# Altium footprint library Pcblib_20110825.Pcblib: 408 footprints (part 4 of 26)
Each footprint in its own frame and in the unit in brackets; x right, y up, seen from the top. Pads: shape width x height; smd on the part's side, far side on the other; paste and mask are expansions set on the pad; w line width, h text height; cw(c..) or ccw(c..) is an arc to the next point about the centre after c.
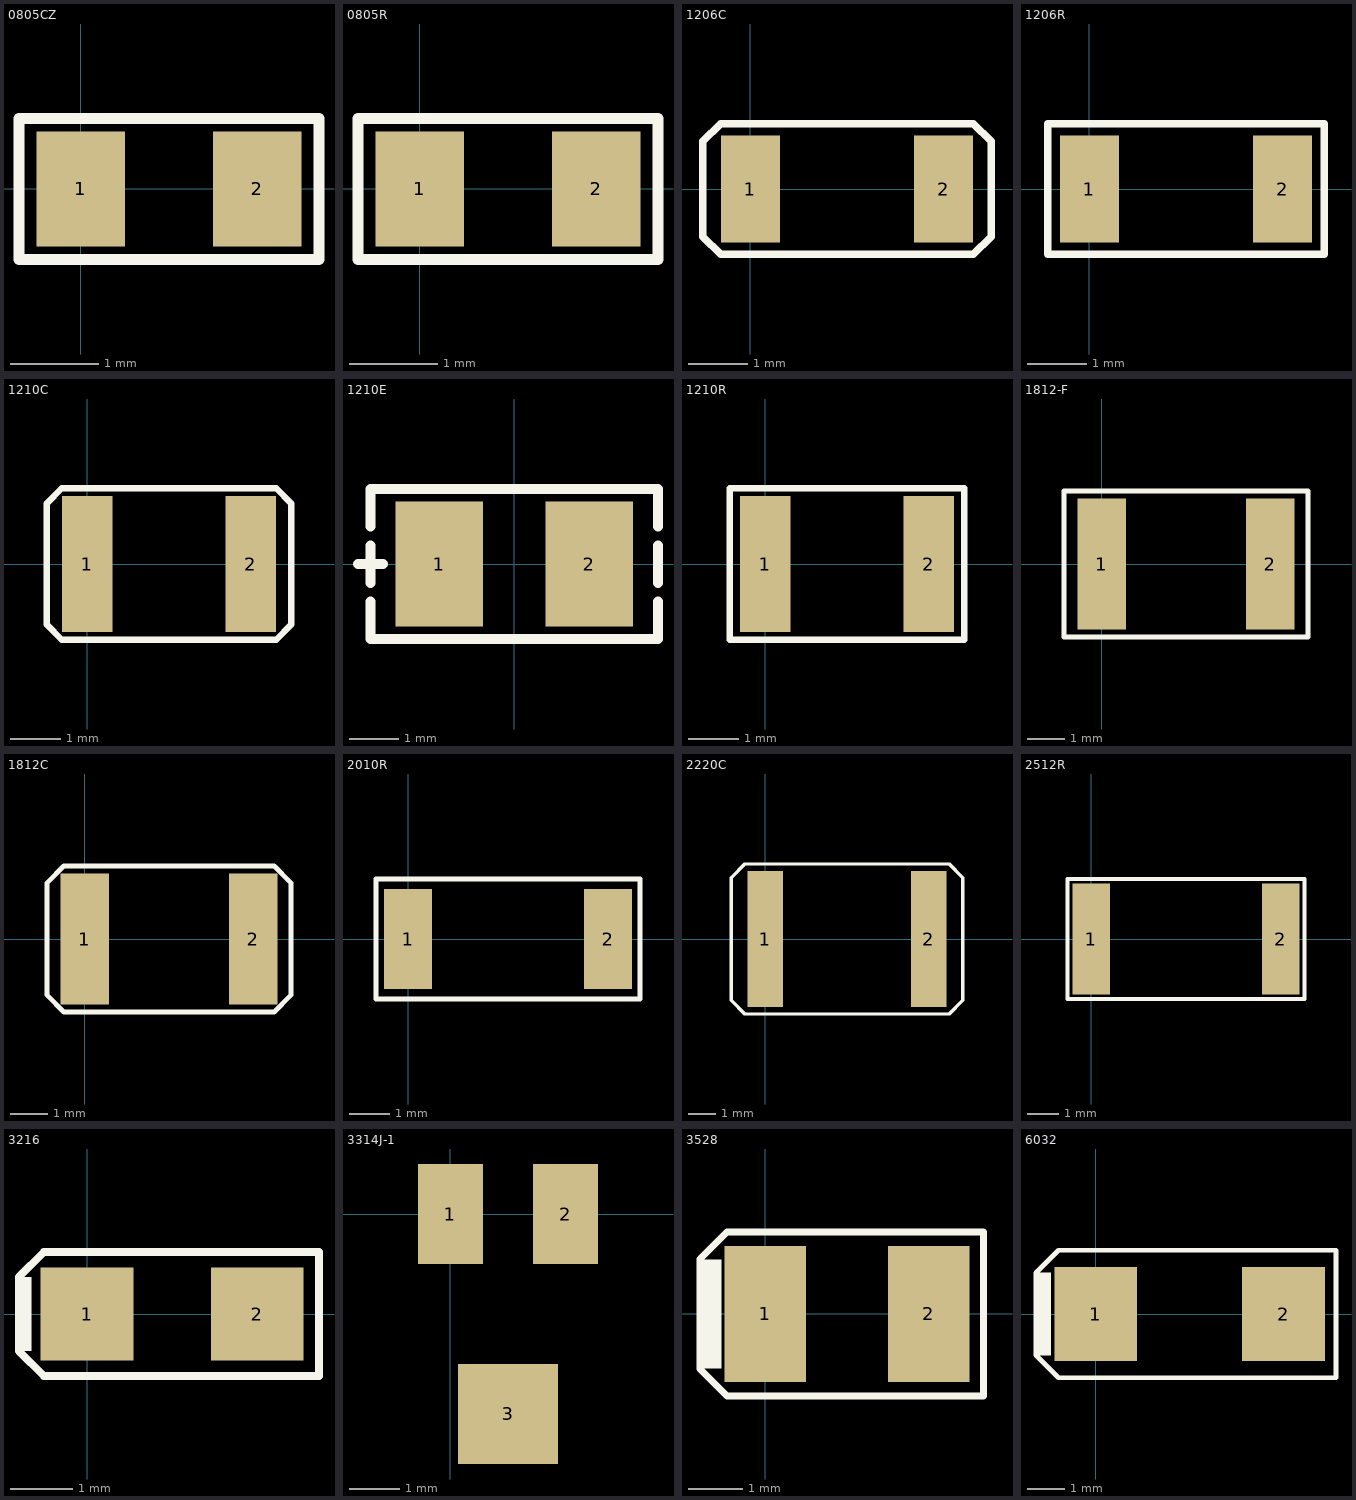
[diagram p3: the footprints below, top view; thin cyan lines are the x and y axes]

## 0805CZ [mm]
pads (2):
  rect 1x1.3 smd: 1(0,0) 2(2,0)
TopOverlay:
  lines w0.127: -0.7,-0.8 -0.7,0.8 2.7,0.8 2.7,-0.8 -0.7,-0.8 ; 2.45,-0.8 2.45,-0.8

## 0805R [mm]
pads (2):
  rect 1x1.3 smd: 1(0,0) 2(2,0)
TopOverlay:
  lines w0.127: -0.7,-0.8 2.7,-0.8 2.7,0.8 -0.7,0.8 -0.7,-0.8 ; 2.45,-0.8 2.45,-0.8

## 1206C [mm]
pads (2):
  rect 1x1.8 smd: 1(0,0) 2(3.25,0)
TopOverlay:
  lines w0.127: -0.8,-0.8 -0.8,0.8 -0.5,1.1 3.75,1.1 4.05,0.8 4.05,-0.8 3.75,-1.1 -0.5,-1.1 -0.8,-0.8

## 1206R [mm]
pads (2):
  rect 1x1.8 smd: 1(0,0) 2(3.25,0)
TopOverlay:
  lines w0.127: -0.7,-1.1 -0.7,1.1 3.95,1.1 3.95,-1.1 -0.7,-1.1

## 1210C [mm]
pads (2):
  rect 1x2.7 smd: 1(0,0) 2(3.25,0)
TopOverlay:
  lines w0.127: -0.8,-1.2 -0.8,1.2 -0.5,1.5 3.75,1.5 4.05,1.2 4.05,-1.2 3.75,-1.5 -0.5,-1.5 -0.8,-1.2

## 1210E [mil]
height 437.01
pads (2):
  rect 70x100 smd: 1(-60,0) 2(60,0)
TopOverlay:
  lines w8: -125,0 -105,0 ; -115,-30 -115,-60 115,-60 115,-30 ; -115,-15 -115,15 ; -115,30 -115,60 115,60 115,30 ; 115,-15 115,15

## 1210R [mm]
pads (2):
  rect 1x2.7 smd: 1(0,0) 2(3.25,0)
TopOverlay:
  lines w0.127: -0.7,-1.5 3.95,-1.5 3.95,1.5 -0.7,1.5 -0.7,-1.5

## 1812-F [mm]
pads (2):
  rect 1.3x3.5 smd: 1(0,0) 2(4.5,0)
TopOverlay:
  lines w0.127: -1,-1.95 -1,1.95 5.5,1.95 5.5,-1.95 -1,-1.95

## 1812C [mm] "C"
pads (2):
  rect 1.3x3.5 smd: 1(0,0) 2(4.5,0)
TopOverlay:
  lines w0.127: -1,-1.5 -0.55,-1.95 5.05,-1.95 5.5,-1.5 5.5,1.5 5.05,1.95 -0.55,1.95 -1,1.5 -1,-1.5

## 2010R [mm]
height 0.6
pads (2):
  rect 1.2x2.5 smd: 1(0,0) 2(5,0)
TopOverlay:
  lines w0.127: -0.8,-1.5 5.8,-1.5 5.8,1.5 -0.8,1.5 -0.8,-1.5

## 2220C [mm] "C"
height 5.1
pads (2):
  rect 1.3x5 smd: 1(0,0) 2(6,0)
TopOverlay:
  lines w0.127: -1.25,-2.25 -1.25,2.25 -0.75,2.75 6.75,2.75 7.25,2.25 7.25,-2.25 6.75,-2.75 -0.75,-2.75 -1.25,-2.25

## 2512R [mm]
pads (2):
  rect 1.2x3.5 smd: 1(0,0) 2(6,0)
TopOverlay:
  lines w0.127: -0.75,-1.9 6.75,-1.9 6.75,1.9 -0.75,1.9 -0.75,-1.9

## 3216 [mm]
pads (2):
  rect 1.5x1.5 smd: 1(0,0) 2(2.75,0)
TopOverlay:
  rectangle: -1.101,-0.599 -0.901,0.601
  lines w0.127: -1.1,-0.6 -1.1,0.6 -0.7,1 3.75,1 3.75,-1 -0.7,-1 -1.1,-0.6

## 3314J-1 [mm]
pads (3):
  rect 1.3x2 smd: 1(0,0) 2(2.3,0)
  rect 2x2 smd: 3(1.15,-4)

## 3528 [mm]
pads (2):
  rect 1.5x2.5 smd: 1(0,0) 2(3,0)
TopOverlay:
  rectangle: -1.2,-1 -0.8,1
  lines w0.127: -1.2,-1 -1.2,1 -0.7,1.5 4,1.5 4,-1.5 -0.7,-1.5 -1.2,-1

## 6032 [mm]
pads (2):
  rect 2.2x2.5 smd: 1(0,0) 2(5,0)
TopOverlay:
  rectangle: -1.6,-1.1 -1.2,1.1
  lines w0.127: -1.6,-1.1 -1,-1.7 6.4,-1.7 6.4,1.7 -1,1.7 -1.6,1.1 -1.6,-1.1